# Altium footprint library Ledrock.PcbLib: 11 footprints
Each footprint in its own frame and in the unit in brackets; x right, y up, seen from the top. Pads: shape width x height; smd on the part's side, far side on the other; paste and mask are expansions set on the pad; w line width, h text height; cw(c..) or ccw(c..) is an arc to the next point about the centre after c.
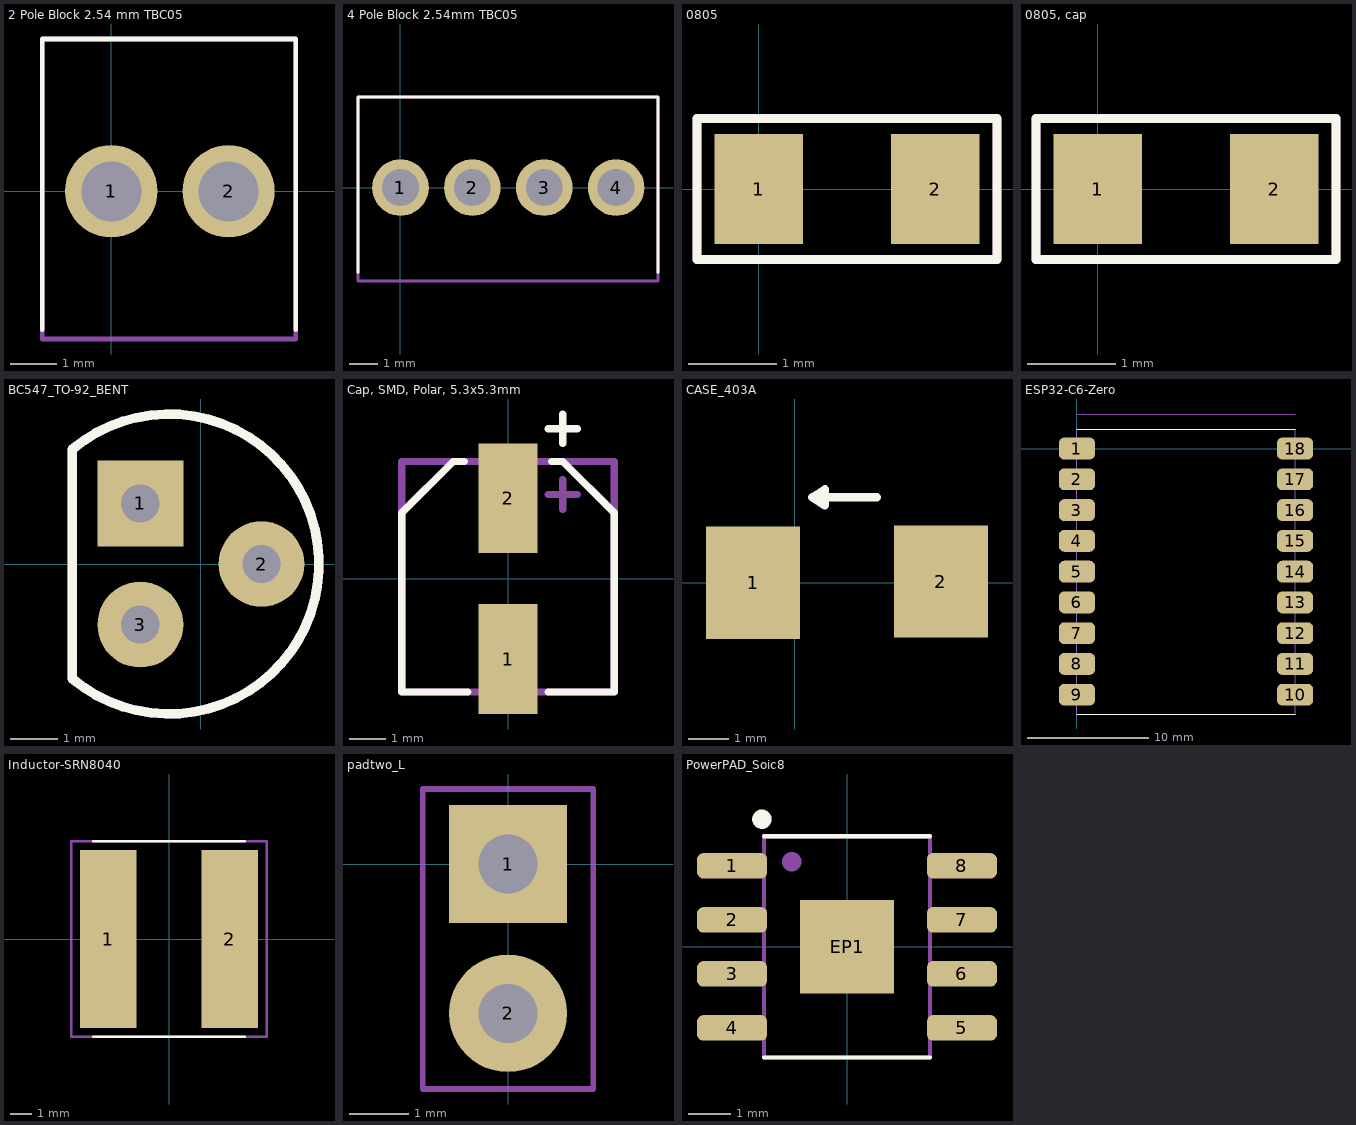
[diagram p0: the footprints below, top view; thin cyan lines are the x and y axes]

## 2 Pole Block 2.54 mm TBC05 [mm] "TBC05 series by GCT"
pads (2):
  round 2 hole 1.3: 1(0,0) 2(2.54,0)
Top Overlay:
  lines w0.1: -1.5,-3 -1.5,3.3 4,3.3 4,-3
Mechanical 13:
  lines w0.1: -1.5,-3.2 4,-3.2 4,3.3 -1.5,3.3 -1.5,-3.2
  text "PCB Edge" at -1.55,-4.383 h0.8
  text ".Designator" at -1,1.233 h1
3D body "tbc05-02-1-g-g.stp": height 8.5, standoff -3.5, extent -1.5,-3.2 3.98,3.3

## 4 Pole Block 2.54mm TBC05 [mm]
pads (4):
  round 2 hole 1.3: 1(0,0) 2(2.54,0) 3(5.08,0) 4(7.62,0)
Top Overlay:
  lines w0.1: -1.5,-3 -1.5,3.2 9.1,3.2 9.1,-3
Mechanical 13:
  lines w0.1: -1.5,-3.3 -1.5,3.2 9.1,3.2 9.1,-3.3 -1.5,-3.3
  text ".Designator" at -0.8,1.433 h1
  text "PCB Edge" at 1.05,-4.683 h0.8
3D body "tbc05-04-1-g-g.stp": height 8.5, standoff -3.5, extent -1.5,-3.3 9.06,3.2

## 0805 [mm]
pads (2):
  rect 1x1.25 smd: 1(0,0) 2(2,0)
Top Overlay:
  lines w0.1: -0.7,-0.8 -0.7,0.8 2.7,0.8 2.7,-0.8 -0.7,-0.8
Mechanical 13:
  lines w0.1: -0.7,-0.8 -0.7,0.8 2.7,0.8 2.7,-0.8 -0.7,-0.8
  text ".Designator" at -0.3,-0.2 h0.4
3D body "User Library-R_0805.STEP": height 0.5, standoff 0, extent 0.025,-0.625 2.025,0.625

## 0805, cap [mm]
pads (2):
  rect 1x1.25 smd: 1(0,0) 2(2,0)
Top Overlay:
  lines w0.1: -0.7,-0.8 2.7,-0.8 2.7,0.8 -0.7,0.8 -0.7,-0.8
Mechanical 13:
  lines w0.1: -0.7,-0.8 2.7,-0.8 2.7,0.8 -0.7,0.8 -0.7,-0.8
  text ".Designator" at -0.2,-0.1 h0.4
3D body "User Library-C0805-2.step": height 0.8, standoff 0, extent -0.009,-0.625 1.991,0.625

## BC547_TO-92_BENT [mm]
pads (3):
  rect 1.8x1.8 hole 0.8: 1(-1.27,1.27)
  round 1.8 hole 0.8: 2(1.27,0) 3(-1.27,-1.27)
Top Overlay:
  lines w0.2: -2.7,-2.4 ccw(c-0.669,0) -2.7,2.4 -2.7,-2.4
Mechanical 13:
  circle w0.6: c-1.3,1.3 r0.2
  lines w0.2: -2.7,-2.4 ccw(c-0.669,0) -2.7,2.4 -2.7,-2.4
  text ".Designator" at -1.3,-0.4 h1.2
3D body "TO-92_CB254_BENT v2.step": height 9.5, standoff -3, extent -2.67,-2.488 1.44,2.488

## Cap, SMD, Polar, 5.3x5.3mm [mm] "Wurth WCAP-ASLI series"
pads (2):
  rect 1.6x3 smd: 1(0,-2.2) 2(0,2.2)
Top Overlay:
  lines w0.2: -1.2,3.2 -1.5,3.2 -2.9,1.8 -2.9,-3.1 -1.1,-3.1 ; 1.1,-3.1 2.9,-3.1 2.9,1.6 2.9,1.8 1.5,3.2 1.2,3.2 ; 1.1,4.1 1.9,4.1 ; 1.5,3.7 1.5,4.5
Mechanical 13:
  lines w0.2: 1.1,2.3 1.9,2.3 ; 1.5,1.9 1.5,2.7 ; -2.9,-3.1 2.9,-3.1 2.9,3.2 -2.9,3.2 -2.9,-3.1
  text ".Designator" at -2.099,-0.267 h0.8
3D body "User Library-ALU-C.STEP": height 5.41, standoff 0, extent -2.65,-2.95 2.65,2.95

## CASE_403A [mm]
pads (2):
  rect 2.3x2.75 smd: 1(-1.016,0) 2(3.584,0.025)
Top Overlay:
  lines w0.2: 0.586,2.188 0.641,2.083 ; 2.023,2.091 0.433,2.091 ; 0.433,2.091 0.743,2.288 ; 0.433,2.091 0.743,1.896 ; 0.641,2.083 0.743,2.288 ; 0.641,2.083 0.743,1.896 ; 0.743,1.896 0.743,2.288
3D body "User Library-DO-214AC_SMA.step": height 2.15, standoff -0.05, extent -1.23,-1.35 3.77,1.35

## ESP32-C6-Zero [mm]
pads (18):
  rrect50% 3x1.8 smd: 1(0,0) 2(0,-2.54) 3(0,-5.08) 4(0,-7.62) 5(0,-10.16) 6(0,-12.7) 7(0,-15.24) 8(0,-17.78) 9(0,-20.32) 10(18,-20.32) 11(18,-17.78) 12(18,-15.24) 13(18,-12.7) 14(18,-10.16) 15(18,-7.62) 16(18,-5.08) 17(18,-2.54) 18(18,0)
Top Overlay:
  lines w0.1: 0,-21.91 18,-21.91 ; 0,1.59 18,1.59
Mechanical 13:
  lines w0.1: 0,2.85 18,2.85 ; 0,-21.91 0,1.59 18,1.59 18,-21.91 0,-21.91
  text ".Designator" at 9.834,-20 h2
3D body "ESP32-C6-Zero_asm.stp": height 4.85, standoff 0, extent 0,-21.885 18.017,2.84

## Inductor-SRN8040 [mm]
pads (2):
  rect 2.6x8.2 smd: 1(-2.8,0) 2(2.8,0)
Top Overlay:
  lines w0.1: -3.5,-4.5 3.5,-4.5 ; -3.5,4.5 3.5,4.5
Mechanical 13:
  lines w0.1: -4.5,-4.5 4.5,-4.5 4.5,4.5 -4.5,4.5 -4.5,-4.5
  text ".Designator" at -2.8,-0.467 h1
3D body "srn8040-150m.stp": height 4, standoff 0, extent -4,-4 4,4

## padtwo_L [mm] "Pad Diameter 2 mm, Hole  0.3 mm, Pitch 2.54 mm"
pads (2):
  rect 2x2 hole 1: 1(0,0)
  round 2 hole 1: 2(0,-2.54)
Mechanical 13:
  lines w0.1: -1.45,-3.825 -1.45,1.275 1.45,1.275 1.45,-3.825 -1.45,-3.825
  text ".Designator" at 0.35,-3.275 h1
3D body "User Library-Pin Header Strip.STEP": height 8.51, standoff -3.68, extent -1.46,-3.81 1.46,1.27

## PowerPAD_Soic8 [mm] "SOIC 8 PowerPAD"
pads (9):
  rrect50% 1.65x0.6 smd: 1(-2.7,1.905) 2(-2.7,0.635) 3(-2.7,-0.635) 4(-2.7,-1.905) 5(2.7,-1.905) 6(2.7,-0.635) 7(2.7,0.635) 8(2.7,1.905)
  rect 2.2x2.2 smd: EP1(0,0)
Top Overlay:
  circle w0.254: c-2,3 r0.1
  lines w0.1: -1.95,-2.6 1.95,-2.6 ; -1.95,2.6 1.95,2.6
Mechanical 13:
  circle w0.254: c-1.3,2 r0.1
  lines w0.1: -1.95,-2.6 1.95,-2.6 1.95,2.6 -1.95,2.6 -1.95,-2.6
  text ".Designator" at 0.267,-1.9 h1
3D body "User Library-TPS54360DDA.step": height 1.58, standoff -0.01, extent -3.1,-2.5 3.1,2.5